# EAGLE library part 7408 (library digitalneStrukture)
Quad 2-input AND gate Datasheet <https://assets.nexperia.com/documents/data-sheet/74HC_HCT08.pdf> Library <https://github.com/SausageCode/Elektrotehnika-UNI-2let/tree/master/DIGITALNE%20STRUKTURE> MB
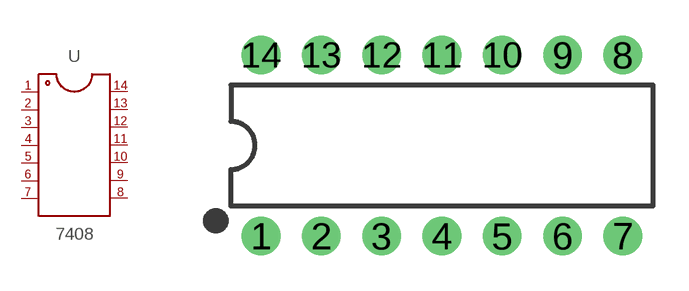
[diagram p2: symbol with the pads of DIP14; footprint DIP14]

Designator prefix U

## 7408  [DIP14]
1  1
2  2
3  3
4  4
5  5
6  6
7  7
8  8
9  9
10  10
11  11
12  12
13  13
14  14

## Footprint DIP14 (pad centres in mm)
drill 0.813 pad 1.626: 1 -7.62,-3.81; 2 -5.08,-3.81; 3 -2.54,-3.81; 4 0,-3.81; 5 2.54,-3.81; 6 5.08,-3.81; 7 7.62,-3.81; 8 7.62,3.81; 9 5.08,3.81; 10 2.54,3.81; 11 0,3.81; 12 -2.54,3.81; 13 -5.08,3.81; 14 -7.62,3.81